# EAGLE library part NANO (library Arduino-clone)
Arduino Nano
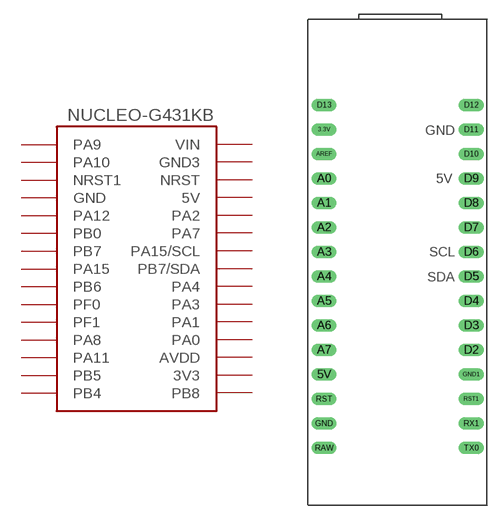
[diagram p3: symbol with the pads of NANO; footprint NANO]

Designator prefix -

## NANO  [NANO]
3.3V  PA10
5V  PA8
A0  GND
A1  PA12
A2  PB0
A3  PB7
A4  PA15
A5  PB6
A6  PF0
A7  PF1
AREF  NRST1
D2  PA1
D3  PA3
D4  PA4
D5  PB7/SDA
D6  PA15/SCL
D7  PA7
D8  PA2
D9  5V
D10  NRST
D11  GND3
D12  VIN
D13  PA9
GND  PB5
GND1  PA0
RAW  PB4
RST  PA11
RST1  AVDD
RX1  3V3
TX0  PB8

## Footprint NANO (pad centres in mm)
drill 0.8 long: 3.3V 0.018,33.081; 5V 0.018,7.681; A0 0.018,28.001; A1 0.018,25.461; A2 0.018,22.921; A3 0.018,20.381; A4 0.018,17.841; A5 0.018,15.301; A6 0.018,12.761; A7 0.018,10.221; AREF 0.018,30.541; D2 15.258,10.221; D3 15.258,12.761; D4 15.258,15.301; D5 15.258,17.841; D6 15.258,20.381; D7 15.258,22.921; D8 15.258,25.461; D9 15.258,28.001; D10 15.258,30.541; D11 15.258,33.081; D12 15.258,35.621; D13 0.018,35.621; GND 0.018,2.601; GND1 15.258,7.681; RAW 0.018,0.061; RST 0.018,5.141; RST1 15.258,5.141; RX1 15.258,2.601; TX0 15.258,0.061